# Altium schematic symbol library PTN78000W.SchLib: 1 symbol
Pins are listed as number, name and electrical type; pins without a type are passive.

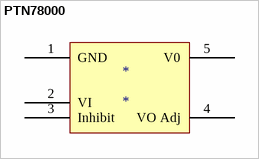
[diagram p0: symbol PTN78000]

## PTN78000
designator *
footprint PTN78000W
pins: 1 GND, 2 VI, 3 Inhibit, 4 VO Adj, 5 V0